# Altium footprint library VDMO10A0.PcbLib: 1 footprints
Each footprint in its own frame and in the unit in brackets; x right, y up, seen from the top. Pads: shape width x height; smd on the part's side, far side on the other; paste and mask are expansions set on the pad; w line width, h text height; cw(c..) or ccw(c..) is an arc to the next point about the centre after c.
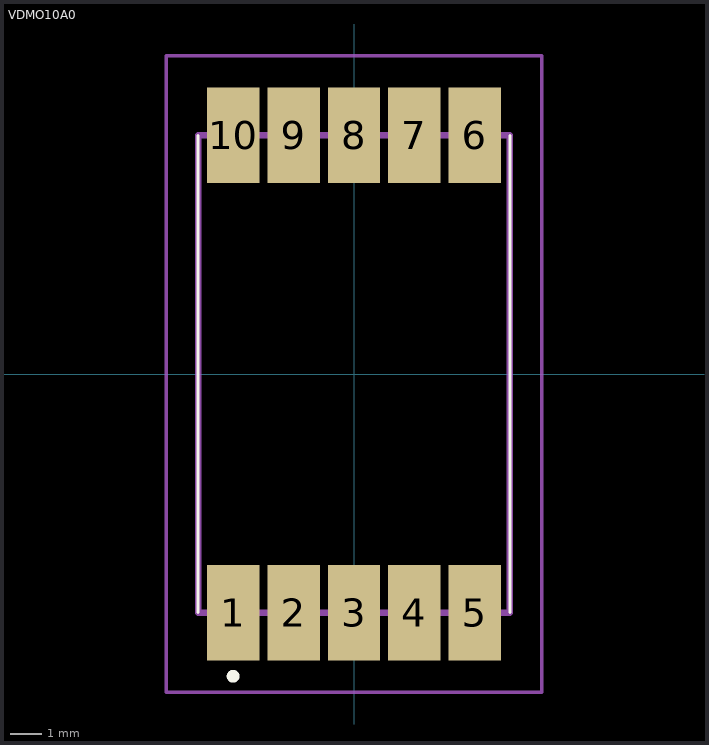
[diagram p0: the footprint, top view; thin cyan lines are the x and y axes]

## VDMO10A0 [mm]
pads (10):
  rect 1.65x3 smd: 1(-3.8,-7.5) 2(-1.9,-7.5) 3(0,-7.5) 4(1.9,-7.5) 5(3.8,-7.5) 6(3.8,7.5) 7(1.9,7.5) 8(0,7.5) 9(-1.9,7.5) 10(-3.8,7.5)
Top Overlay:
  lines w0.1: -4.9,-7.5 -4.9,7.5 ; 4.9,-7.5 4.9,7.5
  lines w0.2: -3.9,-9.5 -3.9,-9.5 ; -3.9,-9.5 ccw(c-3.8,-9.5) -3.7,-9.5 ; -3.9,-9.5 cw(c-3.8,-9.5) -3.7,-9.5 ; -3.7,-9.5 -3.7,-9.5
Mechanical 15:
  lines w0.2: -4.9,-7.5 4.9,-7.5 4.9,7.5 -4.9,7.5 -4.9,-7.5
Mechanical 20:
  lines w0.1: -5.9,-10 5.9,-10 5.9,10 -5.9,10 -5.9,-10